# EAGLE library part MICROSD_CARD_MODULE (library KLEIN)
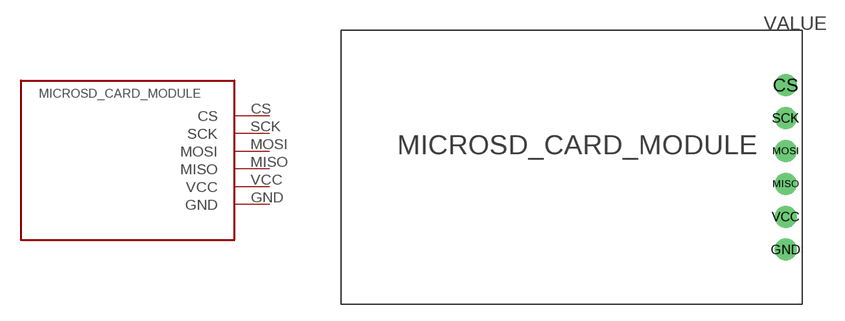
[diagram p2: symbol with the pads of MICROSD_CARD_MODULE; footprint MICROSD_CARD_MODULE]

Designator prefix -

## MICROSD_CARD_MODULE  [MICROSD_CARD_MODULE]
CS  CS
GND  GND
MISO  MISO
MOSI  MOSI
SCK  SCK
VCC  VCC

## Footprint MICROSD_CARD_MODULE (pad centres in mm)
drill 0.6 pad 2: CS 40.5,-5; GND 40.5,-20; MISO 40.5,-14; MOSI 40.5,-11; SCK 40.5,-8; VCC 40.5,-17